# EAGLE library part AD8233 (library LinnesLab-Sensors)
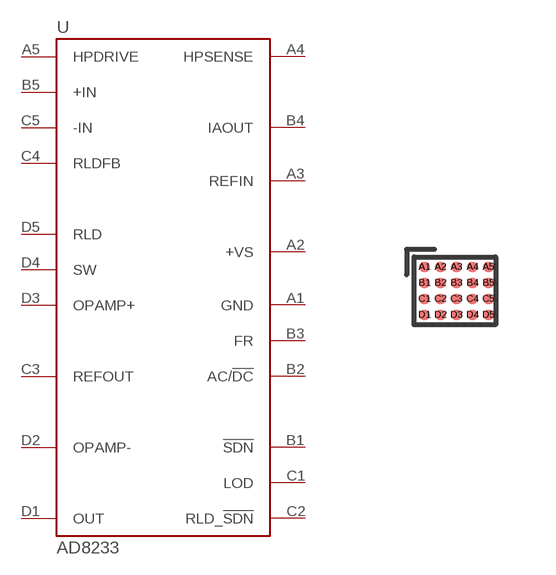
[diagram p26: symbol with the pads of 20-WLCPS-2MMX1.7MM; footprint 20-WLCPS-2MMX1.7MM]

Designator prefix U

## AD8233  [20-WLCPS-2MMX1.7MM]
A1  GND
A2  +VS
A3  REFIN
A4  HPSENSE
A5  HPDRIVE
B1  !SDN
B2  AC/!DC
B3  FR
B4  IAOUT
B5  +IN
C1  LOD
C2  RLD_!SDN
C3  REFOUT
C4  RLDFB
C5  -IN
D1  OUT
D2  OPAMP-
D3  OPAMP+
D4  SW
D5  RLD

## Footprint 20-WLCPS-2MMX1.7MM (pad centres in mm)
smd 0.26 x 0.26: A1 -0.76,0.6; A2 -0.36,0.6; A3 0.04,0.6; A4 0.44,0.6; A5 0.84,0.6; B1 -0.76,0.2; B2 -0.36,0.2; B3 0.04,0.2; B4 0.44,0.2; B5 0.84,0.2; C1 -0.76,-0.201; C2 -0.36,-0.201; C3 0.04,-0.201; C4 0.44,-0.201; C5 0.84,-0.201; D1 -0.76,-0.601; D2 -0.36,-0.601; D3 0.04,-0.601; D4 0.44,-0.601; D5 0.84,-0.601